# Altium schematic symbol library jlcpcb_2025_04_ferrites_extended_0805.schlib: 546 symbols (part 2 of 10)
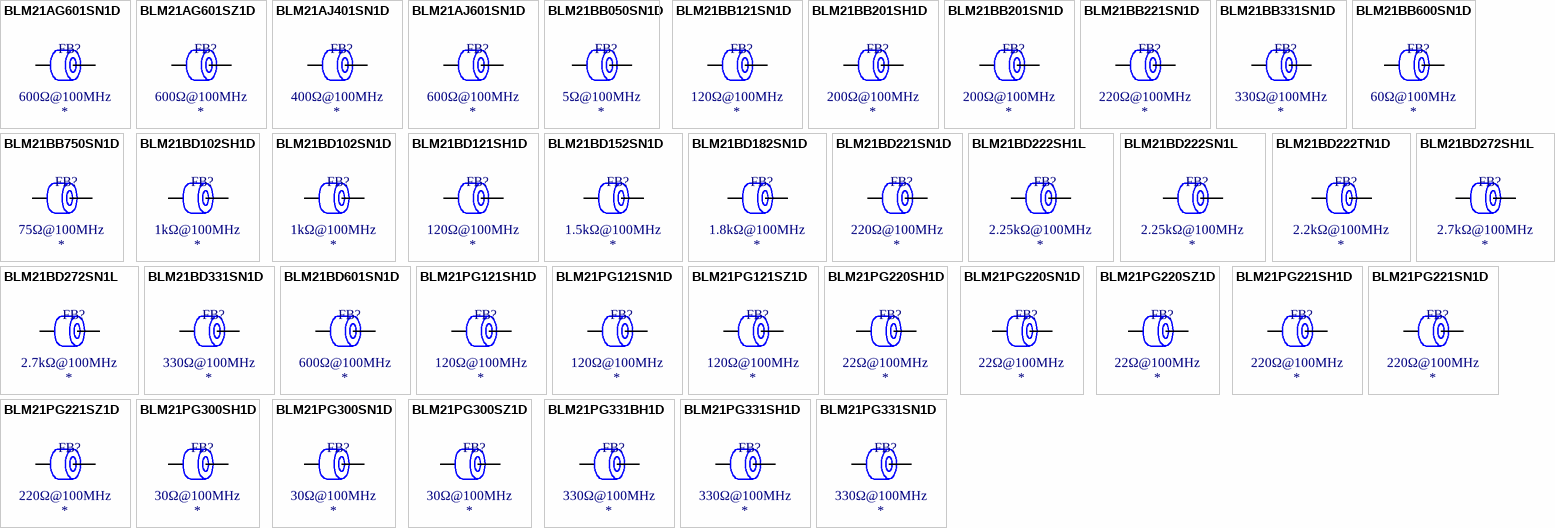
[diagram p14: symbols BLM21AG601SN1D to BLM21PG331SN1D]

## BLM21BD182SN1D
designator FB?  Impedance @ Frequency: 1.8kΩ@100MHz
Ferrite, 1.8kΩ@100MHz, ±25%, 500mΩ, 250mA, SMD 0805; Manufacturer: Murata Electronics; Manufacturer Part Number: BLM21BD182SN1D; Package Size: 0805; JLCPCB Basic Part: No; JLCPCB Part Number: C527614; Supplier 1: LCSC; Category: Ferrite Beads; Supplier Part Number 1: C527614; Tolerance: ±25%; Rated Current: 250mA; DC Resistance: 500mΩ; RoHS: Yes; ComponentLink1Description: Datasheet; ComponentLink1URL: https://wmsc.lcsc.com/wmsc/upload/file/pdf/v2/lcsc/2304140030_Murata-Electronics-BLM21BD182SN1D_C527614.pdf; ComponentLink2Description: JLCPCB Part URL; ComponentLink2URL: https://jlcpcb.com/partdetail/C527614; ComponentLink3Description: LCSC Part URL; ComponentLink3URL: https://lcsc.com/product-detail/Ferrite-Beads_Murata-Electronics-Murata-Electronics-BLM21BD182SN1D_C527614.html
footprint FB-0805 (0805 (2012M) Ferrite)
pins: 1, 2

## BLM21BD221SN1D
designator FB?  Impedance @ Frequency: 220Ω@100MHz
Ferrite, 220Ω@100MHz, 250mΩ, SMD 0805; Manufacturer: Murata Electronics; Manufacturer Part Number: BLM21BD221SN1D; Package Size: 0805; JLCPCB Basic Part: No; JLCPCB Part Number: C603119; Supplier 1: LCSC; Category: Ferrite Beads; Supplier Part Number 1: C603119; DC Resistance: 250mΩ; RoHS: Yes; ComponentLink1Description: Datasheet; ComponentLink1URL: https://wmsc.lcsc.com/wmsc/upload/file/pdf/v2/lcsc/2008241233_Murata-Electronics-BLM21BD221SN1D_C603119.pdf; ComponentLink2Description: JLCPCB Part URL; ComponentLink2URL: https://jlcpcb.com/partdetail/C603119; ComponentLink3Description: LCSC Part URL; ComponentLink3URL: https://lcsc.com/product-detail/Ferrite-Beads_Murata-Electronics-Murata-Electronics-BLM21BD221SN1D_C603119.html
pins: 1, 2

## BLM21BD222SH1L
designator FB?  Impedance @ Frequency: 2.25kΩ@100MHz
Ferrite, 2.25kΩ@100MHz, ±25%, 600mΩ, 250mA, SMD 0805; Manufacturer: Murata Electronics; Manufacturer Part Number: BLM21BD222SH1L; Package Size: 0805; JLCPCB Basic Part: No; JLCPCB Part Number: C701158; Supplier 1: LCSC; Category: Ferrite Beads; Supplier Part Number 1: C701158; Tolerance: ±25%; Rated Current: 250mA; DC Resistance: 600mΩ; RoHS: Yes; ComponentLink1Description: Datasheet; ComponentLink1URL: https://wmsc.lcsc.com/wmsc/upload/file/pdf/v2/lcsc/2009241508_Murata-Electronics-BLM21BD222SH1L_C701158.pdf; ComponentLink2Description: JLCPCB Part URL; ComponentLink2URL: https://jlcpcb.com/partdetail/C701158; ComponentLink3Description: LCSC Part URL; ComponentLink3URL: https://lcsc.com/product-detail/Ferrite-Beads_Murata-Electronics-Murata-Electronics-BLM21BD222SH1L_C701158.html
footprint FB-0805 (0805 (2012M) Ferrite)
pins: 1, 2

## BLM21BD222SN1L
designator FB?  Impedance @ Frequency: 2.25kΩ@100MHz
Ferrite, 2.25kΩ@100MHz, ±25%, 600mΩ, 250mA, SMD 0805; Manufacturer: Murata Electronics; Manufacturer Part Number: BLM21BD222SN1L; Package Size: 0805; JLCPCB Basic Part: No; JLCPCB Part Number: C440134; Supplier 1: LCSC; Category: Ferrite Beads; Supplier Part Number 1: C440134; Tolerance: ±25%; Rated Current: 250mA; DC Resistance: 600mΩ; RoHS: Yes; ComponentLink1Description: Datasheet; ComponentLink1URL: https://wmsc.lcsc.com/wmsc/upload/file/pdf/v2/lcsc/2304140030_Murata-Electronics-BLM21BD222SN1L_C440134.pdf; ComponentLink2Description: JLCPCB Part URL; ComponentLink2URL: https://jlcpcb.com/partdetail/C440134; ComponentLink3Description: LCSC Part URL; ComponentLink3URL: https://lcsc.com/product-detail/Ferrite-Beads_Murata-Electronics-Murata-Electronics-BLM21BD222SN1L_C440134.html
footprint FB-0805 (0805 (2012M) Ferrite)
pins: 1, 2

## BLM21BD222TN1D
designator FB?  Impedance @ Frequency: 2.2kΩ@100MHz
Ferrite, 2.2kΩ@100MHz, ±25%, 600mΩ, 200mA, SMD 0805; Manufacturer: Murata Electronics; Manufacturer Part Number: BLM21BD222TN1D; Package Size: 0805; JLCPCB Basic Part: No; JLCPCB Part Number: C85838; Supplier 1: LCSC; Category: Ferrite Beads; Supplier Part Number 1: C85838; Tolerance: ±25%; Rated Current: 200mA; DC Resistance: 600mΩ; RoHS: Yes; ComponentLink1Description: Datasheet; ComponentLink1URL: https://wmsc.lcsc.com/wmsc/upload/file/pdf/v2/lcsc/2304140030_Murata-Electronics-BLM21BD222TN1D_C85838.pdf; ComponentLink2Description: JLCPCB Part URL; ComponentLink2URL: https://jlcpcb.com/partdetail/C85838; ComponentLink3Description: LCSC Part URL; ComponentLink3URL: https://lcsc.com/product-detail/Ferrite-Beads_Murata-Electronics-Murata-Electronics-BLM21BD222TN1D_C85838.html
footprint FB-0805 (0805 (2012M) Ferrite)
pins: 1, 2

## BLM21BD272SH1L
designator FB?  Impedance @ Frequency: 2.7kΩ@100MHz
Ferrite, 2.7kΩ@100MHz, ±25%, 800mΩ, 200mA, SMD 0805; Manufacturer: Murata Electronics; Manufacturer Part Number: BLM21BD272SH1L; Package Size: 0805; JLCPCB Basic Part: No; JLCPCB Part Number: C437409; Supplier 1: LCSC; Category: Ferrite Beads; Supplier Part Number 1: C437409; Tolerance: ±25%; Rated Current: 200mA; DC Resistance: 800mΩ; RoHS: Yes; ComponentLink1Description: Datasheet; ComponentLink1URL: https://wmsc.lcsc.com/wmsc/upload/file/pdf/v2/lcsc/2304140030_Murata-Electronics-BLM21BD272SH1L_C437409.pdf; ComponentLink2Description: JLCPCB Part URL; ComponentLink2URL: https://jlcpcb.com/partdetail/C437409; ComponentLink3Description: LCSC Part URL; ComponentLink3URL: https://lcsc.com/product-detail/Ferrite-Beads_Murata-Electronics-Murata-Electronics-BLM21BD272SH1L_C437409.html
footprint FB-0805 (0805 (2012M) Ferrite)
pins: 1, 2

## BLM21BD272SN1L
designator FB?  Impedance @ Frequency: 2.7kΩ@100MHz
Ferrite, 2.7kΩ@100MHz, ±25%, 800mΩ, 200mA, SMD 0805; Manufacturer: Murata Electronics; Manufacturer Part Number: BLM21BD272SN1L; Package Size: 0805; JLCPCB Basic Part: No; JLCPCB Part Number: C85839; Supplier 1: LCSC; Category: Ferrite Beads; Supplier Part Number 1: C85839; Tolerance: ±25%; Rated Current: 200mA; DC Resistance: 800mΩ; RoHS: Yes; ComponentLink1Description: Datasheet; ComponentLink1URL: https://wmsc.lcsc.com/wmsc/upload/file/pdf/v2/lcsc/2304140030_Murata-Electronics-BLM21BD272SN1L_C85839.pdf; ComponentLink2Description: JLCPCB Part URL; ComponentLink2URL: https://jlcpcb.com/partdetail/C85839; ComponentLink3Description: LCSC Part URL; ComponentLink3URL: https://lcsc.com/product-detail/Ferrite-Beads_Murata-Electronics-Murata-Electronics-BLM21BD272SN1L_C85839.html
footprint FB-0805 (0805 (2012M) Ferrite)
pins: 1, 2

## BLM21BD331SN1D
designator FB?  Impedance @ Frequency: 330Ω@100MHz
Ferrite, 330Ω@100MHz, ±25%, 300mΩ, 300mA, SMD 0805; Manufacturer: Murata Electronics; Manufacturer Part Number: BLM21BD331SN1D; Package Size: 0805; JLCPCB Basic Part: No; JLCPCB Part Number: C710506; Supplier 1: LCSC; Category: Ferrite Beads; Supplier Part Number 1: C710506; Tolerance: ±25%; Rated Current: 300mA; DC Resistance: 300mΩ; RoHS: Yes; ComponentLink1Description: Datasheet; ComponentLink1URL: https://wmsc.lcsc.com/wmsc/upload/file/pdf/v2/lcsc/2304140030_Murata-Electronics-BLM21BD331SN1D_C710506.pdf; ComponentLink2Description: JLCPCB Part URL; ComponentLink2URL: https://jlcpcb.com/partdetail/C710506; ComponentLink3Description: LCSC Part URL; ComponentLink3URL: https://lcsc.com/product-detail/Ferrite-Beads_Murata-Electronics-Murata-Electronics-BLM21BD331SN1D_C710506.html
footprint FB-0805 (0805 (2012M) Ferrite)
pins: 1, 2

## BLM21BD601SN1D
designator FB?  Impedance @ Frequency: 600Ω@100MHz
Ferrite, 600Ω@100MHz, ±25%, 350mΩ, 300mA, SMD 0805; Manufacturer: Murata Electronics; Manufacturer Part Number: BLM21BD601SN1D; Package Size: 0805; JLCPCB Basic Part: No; JLCPCB Part Number: C341663; Supplier 1: LCSC; Category: Ferrite Beads; Supplier Part Number 1: C341663; Tolerance: ±25%; Rated Current: 300mA; DC Resistance: 350mΩ; RoHS: Yes; ComponentLink1Description: Datasheet; ComponentLink1URL: https://wmsc.lcsc.com/wmsc/upload/file/pdf/v2/lcsc/2304140030_Murata-Electronics-BLM21BD601SN1D_C341663.pdf; ComponentLink2Description: JLCPCB Part URL; ComponentLink2URL: https://jlcpcb.com/partdetail/C341663; ComponentLink3Description: LCSC Part URL; ComponentLink3URL: https://lcsc.com/product-detail/Ferrite-Beads_Murata-Electronics-Murata-Electronics-BLM21BD601SN1D_C341663.html
footprint FB-0805 (0805 (2012M) Ferrite)
pins: 1, 2

## BLM21PG121SH1D
designator FB?  Impedance @ Frequency: 120Ω@100MHz
Ferrite, 120Ω@100MHz, ±25%, 30mΩ, 3A, SMD 0805; Manufacturer: Murata Electronics; Manufacturer Part Number: BLM21PG121SH1D; Package Size: 0805; JLCPCB Basic Part: No; JLCPCB Part Number: C437410; Supplier 1: LCSC; Category: Ferrite Beads; Supplier Part Number 1: C437410; Tolerance: ±25%; Rated Current: 3A; DC Resistance: 30mΩ; RoHS: Yes; ComponentLink1Description: Datasheet; ComponentLink1URL: https://wmsc.lcsc.com/wmsc/upload/file/pdf/v2/lcsc/2304140030_Murata-Electronics-BLM21PG121SH1D_C437410.pdf; ComponentLink2Description: JLCPCB Part URL; ComponentLink2URL: https://jlcpcb.com/partdetail/C437410; ComponentLink3Description: LCSC Part URL; ComponentLink3URL: https://lcsc.com/product-detail/Ferrite-Beads_Murata-Electronics-Murata-Electronics-BLM21PG121SH1D_C437410.html
footprint FB-0805 (0805 (2012M) Ferrite)
pins: 1, 2

## BLM21PG121SN1D
designator FB?  Impedance @ Frequency: 120Ω@100MHz
Ferrite, 120Ω@100MHz, ±25%, 30mΩ, 3A, SMD 0805; Manufacturer: Murata Electronics; Manufacturer Part Number: BLM21PG121SN1D; Package Size: 0805; JLCPCB Basic Part: No; JLCPCB Part Number: C79382; Supplier 1: LCSC; Category: Ferrite Beads; Supplier Part Number 1: C79382; Tolerance: ±25%; Rated Current: 3A; DC Resistance: 30mΩ; RoHS: Yes; ComponentLink1Description: Datasheet; ComponentLink1URL: https://wmsc.lcsc.com/wmsc/upload/file/pdf/v2/lcsc/2304140030_Murata-Electronics-BLM21PG121SN1D_C79382.pdf; ComponentLink2Description: JLCPCB Part URL; ComponentLink2URL: https://jlcpcb.com/partdetail/C79382; ComponentLink3Description: LCSC Part URL; ComponentLink3URL: https://lcsc.com/product-detail/Ferrite-Beads_Murata-Electronics-Murata-Electronics-BLM21PG121SN1D_C79382.html
footprint FB-0805 (0805 (2012M) Ferrite)
pins: 1, 2

## BLM21PG121SZ1D
designator FB?  Impedance @ Frequency: 120Ω@100MHz
Ferrite, 120Ω@100MHz, ±25%, 60mΩ, 3A, SMD 0805; Manufacturer: Murata Electronics; Manufacturer Part Number: BLM21PG121SZ1D; Package Size: 0805; JLCPCB Basic Part: No; JLCPCB Part Number: C160987; Supplier 1: LCSC; Category: Ferrite Beads; Supplier Part Number 1: C160987; Tolerance: ±25%; Rated Current: 3A; DC Resistance: 60mΩ; RoHS: Yes; ComponentLink1Description: Datasheet; ComponentLink1URL: https://wmsc.lcsc.com/wmsc/upload/file/pdf/v2/lcsc/1810201240_Murata-Electronics-BLM21PG121SZ1D_C160987.pdf; ComponentLink2Description: JLCPCB Part URL; ComponentLink2URL: https://jlcpcb.com/partdetail/C160987; ComponentLink3Description: LCSC Part URL; ComponentLink3URL: https://lcsc.com/product-detail/Ferrite-Beads_Murata-Electronics-Murata-Electronics-BLM21PG121SZ1D_C160987.html
footprint FB-0805 (0805 (2012M) Ferrite)
pins: 1, 2

## BLM21PG220SH1D
designator FB?  Impedance @ Frequency: 22Ω@100MHz
Ferrite, 22Ω@100MHz, ±25%, 9mΩ, 6A, SMD 0805; Manufacturer: Murata Electronics; Manufacturer Part Number: BLM21PG220SH1D; Package Size: 0805; JLCPCB Basic Part: No; JLCPCB Part Number: C341664; Supplier 1: LCSC; Category: Ferrite Beads; Supplier Part Number 1: C341664; Tolerance: ±25%; Rated Current: 6A; DC Resistance: 9mΩ; RoHS: Yes; ComponentLink1Description: Datasheet; ComponentLink1URL: https://wmsc.lcsc.com/wmsc/upload/file/pdf/v2/lcsc/1912111437_Murata-Electronics-BLM21PG220SH1D_C341664.pdf; ComponentLink2Description: JLCPCB Part URL; ComponentLink2URL: https://jlcpcb.com/partdetail/C341664; ComponentLink3Description: LCSC Part URL; ComponentLink3URL: https://lcsc.com/product-detail/Ferrite-Beads_Murata-Electronics-Murata-Electronics-BLM21PG220SH1D_C341664.html
footprint FB-0805 (0805 (2012M) Ferrite)
pins: 1, 2

## BLM21PG220SN1D
designator FB?  Impedance @ Frequency: 22Ω@100MHz
Ferrite, 22Ω@100MHz, ±25%, 9mΩ, 6A, SMD 0805; Manufacturer: Murata Electronics; Manufacturer Part Number: BLM21PG220SN1D; Package Size: 0805; JLCPCB Basic Part: No; JLCPCB Part Number: C88993; Supplier 1: LCSC; Category: Ferrite Beads; Supplier Part Number 1: C88993; Tolerance: ±25%; Rated Current: 6A; DC Resistance: 9mΩ; RoHS: Yes; ComponentLink1Description: Datasheet; ComponentLink1URL: https://wmsc.lcsc.com/wmsc/upload/file/pdf/v2/lcsc/2304140030_Murata-Electronics-BLM21PG220SN1D_C88993.pdf; ComponentLink2Description: JLCPCB Part URL; ComponentLink2URL: https://jlcpcb.com/partdetail/C88993; ComponentLink3Description: LCSC Part URL; ComponentLink3URL: https://lcsc.com/product-detail/Ferrite-Beads_Murata-Electronics-Murata-Electronics-BLM21PG220SN1D_C88993.html
footprint FB-0805 (0805 (2012M) Ferrite)
pins: 1, 2

## BLM21PG220SZ1D
designator FB?  Impedance @ Frequency: 22Ω@100MHz
Ferrite, 22Ω@100MHz, ±25%, 9mΩ, 6A, SMD 0805; Manufacturer: Murata Electronics; Manufacturer Part Number: BLM21PG220SZ1D; Package Size: 0805; JLCPCB Basic Part: No; JLCPCB Part Number: C2661893; Supplier 1: LCSC; Category: Ferrite Beads; Supplier Part Number 1: C2661893; Tolerance: ±25%; Rated Current: 6A; DC Resistance: 9mΩ; RoHS: Yes; ComponentLink1Description: Datasheet; ComponentLink1URL: https://wmsc.lcsc.com/wmsc/upload/file/pdf/v2/lcsc/2304140030_Murata-Electronics-BLM21PG220SZ1D_C2661893.pdf; ComponentLink2Description: JLCPCB Part URL; ComponentLink2URL: https://jlcpcb.com/partdetail/C2661893; ComponentLink3Description: LCSC Part URL; ComponentLink3URL: https://lcsc.com/product-detail/Ferrite-Beads_Murata-Electronics-Murata-Electronics-BLM21PG220SZ1D_C2661893.html
footprint FB-0805 (0805 (2012M) Ferrite)
pins: 1, 2

## BLM21PG221SH1D
designator FB?  Impedance @ Frequency: 220Ω@100MHz
Ferrite, 220Ω@100MHz, ±25%, 45mΩ, 2A, SMD 0805; Manufacturer: Murata Electronics; Manufacturer Part Number: BLM21PG221SH1D; Package Size: 0805; JLCPCB Basic Part: No; JLCPCB Part Number: C88994; Supplier 1: LCSC; Category: Ferrite Beads; Supplier Part Number 1: C88994; Tolerance: ±25%; Rated Current: 2A; DC Resistance: 45mΩ; RoHS: Yes; ComponentLink1Description: Datasheet; ComponentLink1URL: https://wmsc.lcsc.com/wmsc/upload/file/pdf/v2/lcsc/2304140030_Murata-Electronics-BLM21PG221SH1D_C88994.pdf; ComponentLink2Description: JLCPCB Part URL; ComponentLink2URL: https://jlcpcb.com/partdetail/C88994; ComponentLink3Description: LCSC Part URL; ComponentLink3URL: https://lcsc.com/product-detail/Ferrite-Beads_Murata-Electronics-Murata-Electronics-BLM21PG221SH1D_C88994.html
footprint FB-0805 (0805 (2012M) Ferrite)
pins: 1, 2

## BLM21PG221SN1D
designator FB?  Impedance @ Frequency: 220Ω@100MHz
Ferrite, 220Ω@100MHz, ±25%, 45mΩ, 2A, SMD 0805; Manufacturer: Murata Electronics; Manufacturer Part Number: BLM21PG221SN1D; Package Size: 0805; JLCPCB Basic Part: No; JLCPCB Part Number: C85840; Supplier 1: LCSC; Category: Ferrite Beads; Supplier Part Number 1: C85840; Tolerance: ±25%; Rated Current: 2A; DC Resistance: 45mΩ; RoHS: Yes; ComponentLink1Description: Datasheet; ComponentLink1URL: https://wmsc.lcsc.com/wmsc/upload/file/pdf/v2/lcsc/2304140030_Murata-Electronics-BLM21PG221SN1D_C85840.pdf; ComponentLink2Description: JLCPCB Part URL; ComponentLink2URL: https://jlcpcb.com/partdetail/C85840; ComponentLink3Description: LCSC Part URL; ComponentLink3URL: https://lcsc.com/product-detail/Ferrite-Beads_Murata-Electronics-Murata-Electronics-BLM21PG221SN1D_C85840.html
footprint FB-0805 (0805 (2012M) Ferrite)
pins: 1, 2

## BLM21PG221SZ1D
designator FB?  Impedance @ Frequency: 220Ω@100MHz
Ferrite, 220Ω@100MHz, ±25%, 45mΩ, 2A, SMD 0805; Manufacturer: Murata Electronics; Manufacturer Part Number: BLM21PG221SZ1D; Package Size: 0805; JLCPCB Basic Part: No; JLCPCB Part Number: C437411; Supplier 1: LCSC; Category: Ferrite Beads; Supplier Part Number 1: C437411; Tolerance: ±25%; Rated Current: 2A; DC Resistance: 45mΩ; RoHS: Yes; ComponentLink1Description: Datasheet; ComponentLink1URL: https://wmsc.lcsc.com/wmsc/upload/file/pdf/v2/lcsc/2304140030_Murata-Electronics-BLM21PG221SZ1D_C437411.pdf; ComponentLink2Description: JLCPCB Part URL; ComponentLink2URL: https://jlcpcb.com/partdetail/C437411; ComponentLink3Description: LCSC Part URL; ComponentLink3URL: https://lcsc.com/product-detail/Ferrite-Beads_Murata-Electronics-Murata-Electronics-BLM21PG221SZ1D_C437411.html
footprint FB-0805 (0805 (2012M) Ferrite)
pins: 1, 2

## BLM21PG300SH1D
designator FB?  Impedance @ Frequency: 30Ω@100MHz
Ferrite, 30Ω@100MHz, ±25%, 14mΩ, 4A, SMD 0805; Manufacturer: Murata Electronics; Manufacturer Part Number: BLM21PG300SH1D; Package Size: 0805; JLCPCB Basic Part: No; JLCPCB Part Number: C701257; Supplier 1: LCSC; Category: Ferrite Beads; Supplier Part Number 1: C701257; Tolerance: ±25%; Rated Current: 4A; DC Resistance: 14mΩ; RoHS: Yes; ComponentLink1Description: Datasheet; ComponentLink1URL: https://wmsc.lcsc.com/wmsc/upload/file/pdf/v2/lcsc/2010151208_Murata-Electronics-BLM21PG300SH1D_C701257.pdf; ComponentLink2Description: JLCPCB Part URL; ComponentLink2URL: https://jlcpcb.com/partdetail/C701257; ComponentLink3Description: LCSC Part URL; ComponentLink3URL: https://lcsc.com/product-detail/Ferrite-Beads_Murata-Electronics-Murata-Electronics-BLM21PG300SH1D_C701257.html
footprint FB-0805 (0805 (2012M) Ferrite)
pins: 1, 2

## BLM21PG300SN1D
designator FB?  Impedance @ Frequency: 30Ω@100MHz
Ferrite, 30Ω@100MHz, ±25%, 14mΩ, 4A, SMD 0805; Manufacturer: Murata Electronics; Manufacturer Part Number: BLM21PG300SN1D; Package Size: 0805; JLCPCB Basic Part: No; JLCPCB Part Number: C16903; Supplier 1: LCSC; Category: Ferrite Beads; Supplier Part Number 1: C16903; Tolerance: ±25%; Rated Current: 4A; DC Resistance: 14mΩ; RoHS: Yes; ComponentLink1Description: Datasheet; ComponentLink1URL: https://wmsc.lcsc.com/wmsc/upload/file/pdf/v2/lcsc/2304140030_Murata-Electronics-BLM21PG300SN1D_C16903.pdf; ComponentLink2Description: JLCPCB Part URL; ComponentLink2URL: https://jlcpcb.com/partdetail/C16903; ComponentLink3Description: LCSC Part URL; ComponentLink3URL: https://lcsc.com/product-detail/Ferrite-Beads_Murata-Electronics-Murata-Electronics-BLM21PG300SN1D-_C16903.html
footprint FB-0805 (0805 (2012M) Ferrite)
pins: 1, 2

## BLM21PG300SZ1D
designator FB?  Impedance @ Frequency: 30Ω@100MHz
Ferrite, 30Ω@100MHz, ±25%, 14mΩ, 4A, SMD 0805; Manufacturer: Murata Electronics; Manufacturer Part Number: BLM21PG300SZ1D; Package Size: 0805; JLCPCB Basic Part: No; JLCPCB Part Number: C710510; Supplier 1: LCSC; Category: Ferrite Beads; Supplier Part Number 1: C710510; Tolerance: ±25%; Rated Current: 4A; DC Resistance: 14mΩ; RoHS: Yes; ComponentLink1Description: Datasheet; ComponentLink1URL: https://wmsc.lcsc.com/wmsc/upload/file/pdf/v2/lcsc/2304140030_Murata-Electronics-BLM21PG300SZ1D_C710510.pdf; ComponentLink2Description: JLCPCB Part URL; ComponentLink2URL: https://jlcpcb.com/partdetail/C710510; ComponentLink3Description: LCSC Part URL; ComponentLink3URL: https://lcsc.com/product-detail/Ferrite-Beads_Murata-Electronics-Murata-Electronics-BLM21PG300SZ1D_C710510.html
footprint FB-0805 (0805 (2012M) Ferrite)
pins: 1, 2

## BLM21PG331BH1D
designator FB?  Impedance @ Frequency: 330Ω@100MHz
Ferrite, 330Ω@100MHz, 70mΩ, SMD 0805; Manufacturer: Murata Electronics; Manufacturer Part Number: BLM21PG331BH1D; Package Size: 0805; JLCPCB Basic Part: No; JLCPCB Part Number: C3716757; Supplier 1: LCSC; Category: Ferrite Beads; Supplier Part Number 1: C3716757; DC Resistance: 70mΩ; RoHS: Yes; ComponentLink1Description: Datasheet; ComponentLink1URL: https://wmsc.lcsc.com/wmsc/upload/file/pdf/v2/lcsc/2308111351_Murata-Electronics-BLM21PG331BH1D_C3716757.pdf; ComponentLink2Description: JLCPCB Part URL; ComponentLink2URL: https://jlcpcb.com/partdetail/C3716757; ComponentLink3Description: LCSC Part URL; ComponentLink3URL: https://lcsc.com/product-detail/Ferrite-Beads_Murata-Electronics-Murata-Electronics-BLM21PG331BH1D_C3716757.html
pins: 1, 2

## BLM21PG331SH1D
designator FB?  Impedance @ Frequency: 330Ω@100MHz
Ferrite, 330Ω@100MHz, ±25%, 70mΩ, 1.5A, SMD 0805; Manufacturer: Murata Electronics; Manufacturer Part Number: BLM21PG331SH1D; Package Size: 0805; JLCPCB Basic Part: No; JLCPCB Part Number: C72904; Supplier 1: LCSC; Category: Ferrite Beads; Supplier Part Number 1: C72904; Tolerance: ±25%; Rated Current: 1.5A; DC Resistance: 70mΩ; RoHS: Yes; ComponentLink1Description: Datasheet; ComponentLink1URL: https://wmsc.lcsc.com/wmsc/upload/file/pdf/v2/lcsc/1810201233_Murata-Electronics-BLM21PG331SH1D_C72904.pdf; ComponentLink2Description: JLCPCB Part URL; ComponentLink2URL: https://jlcpcb.com/partdetail/C72904; ComponentLink3Description: LCSC Part URL; ComponentLink3URL: https://lcsc.com/product-detail/Ferrite-Beads_Murata-Electronics-Murata-Electronics-BLM21PG331SH1D_C72904.html
footprint FB-0805 (0805 (2012M) Ferrite)
pins: 1, 2

## BLM21PG331SN1D
designator FB?  Impedance @ Frequency: 330Ω@100MHz
Ferrite, 330Ω@100MHz, ±25%, 70mΩ, 1.5A, SMD 0805; Manufacturer: Murata Electronics; Manufacturer Part Number: BLM21PG331SN1D; Package Size: 0805; JLCPCB Basic Part: No; JLCPCB Part Number: C74764; Supplier 1: LCSC; Category: Ferrite Beads; Supplier Part Number 1: C74764; Tolerance: ±25%; Rated Current: 1.5A; DC Resistance: 70mΩ; RoHS: Yes; ComponentLink1Description: Datasheet; ComponentLink1URL: https://wmsc.lcsc.com/wmsc/upload/file/pdf/v2/lcsc/2304140030_Murata-Electronics-BLM21PG331SN1D_C74764.pdf; ComponentLink2Description: JLCPCB Part URL; ComponentLink2URL: https://jlcpcb.com/partdetail/C74764; ComponentLink3Description: LCSC Part URL; ComponentLink3URL: https://lcsc.com/product-detail/Ferrite-Beads_Murata-Electronics-Murata-Electronics-BLM21PG331SN1D_C74764.html
footprint FB-0805 (0805 (2012M) Ferrite)
pins: 1, 2

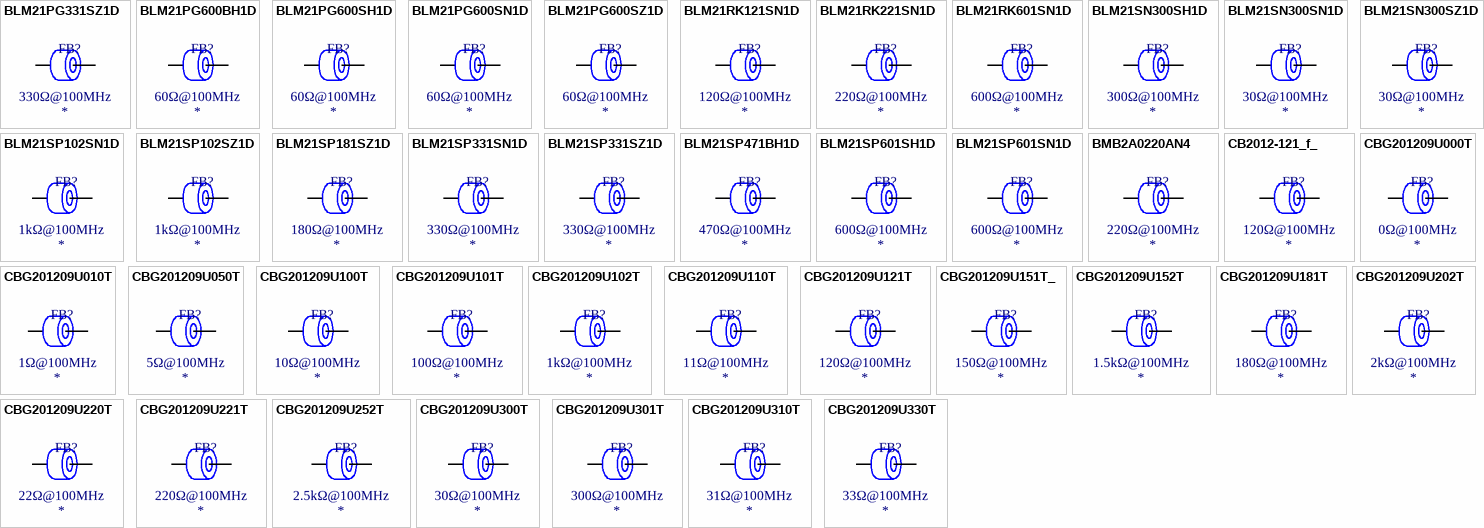
[diagram p2: symbols BLM21PG331SZ1D to CBG201209U330T]

## BLM21PG331SZ1D
designator FB?  Impedance @ Frequency: 330Ω@100MHz
Ferrite, 330Ω@100MHz, ±25%, 70mΩ, 1.5A, SMD 0805; Manufacturer: Murata Electronics; Manufacturer Part Number: BLM21PG331SZ1D; Package Size: 0805; JLCPCB Basic Part: No; JLCPCB Part Number: C701265; Supplier 1: LCSC; Category: Ferrite Beads; Supplier Part Number 1: C701265; Tolerance: ±25%; Rated Current: 1.5A; DC Resistance: 70mΩ; RoHS: Yes; ComponentLink1Description: Datasheet; ComponentLink1URL: https://wmsc.lcsc.com/wmsc/upload/file/pdf/v2/lcsc/2010231205_Murata-Electronics-BLM21PG331SZ1D_C701265.pdf; ComponentLink2Description: JLCPCB Part URL; ComponentLink2URL: https://jlcpcb.com/partdetail/C701265; ComponentLink3Description: LCSC Part URL; ComponentLink3URL: https://lcsc.com/product-detail/Ferrite-Beads_Murata-Electronics-Murata-Electronics-BLM21PG331SZ1D_C701265.html
footprint FB-0805 (0805 (2012M) Ferrite)
pins: 1, 2

## BLM21PG600BH1D
designator FB?  Impedance @ Frequency: 60Ω@100MHz
Ferrite, 60Ω@100MHz, 20mΩ, SMD 0805; Manufacturer: Murata Electronics; Manufacturer Part Number: BLM21PG600BH1D; Package Size: 0805; JLCPCB Basic Part: No; JLCPCB Part Number: C3039636; Supplier 1: LCSC; Category: Ferrite Beads; Supplier Part Number 1: C3039636; DC Resistance: 20mΩ; RoHS: Yes; ComponentLink1Description: Datasheet; ComponentLink1URL: https://wmsc.lcsc.com/wmsc/upload/file/pdf/v2/lcsc/2206171701_Murata-Electronics-BLM21PG600BH1D_C3039636.pdf; ComponentLink2Description: JLCPCB Part URL; ComponentLink2URL: https://jlcpcb.com/partdetail/C3039636; ComponentLink3Description: LCSC Part URL; ComponentLink3URL: https://lcsc.com/product-detail/Ferrite-Beads_Murata-Electronics-Murata-Electronics-BLM21PG600BH1D_C3039636.html
pins: 1, 2

## BLM21PG600SH1D
designator FB?  Impedance @ Frequency: 60Ω@100MHz
Ferrite, 60Ω@100MHz, ±25%, 20mΩ, 3.5A, SMD 0805; Manufacturer: Murata Electronics; Manufacturer Part Number: BLM21PG600SH1D; Package Size: 0805; JLCPCB Basic Part: No; JLCPCB Part Number: C337883; Supplier 1: LCSC; Category: Ferrite Beads; Supplier Part Number 1: C337883; Tolerance: ±25%; Rated Current: 3.5A; DC Resistance: 20mΩ; RoHS: Yes; ComponentLink1Description: Datasheet; ComponentLink1URL: https://wmsc.lcsc.com/wmsc/upload/file/pdf/v2/lcsc/2304140030_Murata-Electronics-BLM21PG600SH1D_C337883.pdf; ComponentLink2Description: JLCPCB Part URL; ComponentLink2URL: https://jlcpcb.com/partdetail/C337883; ComponentLink3Description: LCSC Part URL; ComponentLink3URL: https://lcsc.com/product-detail/Ferrite-Beads_Murata-Electronics-Murata-Electronics-BLM21PG600SH1D_C337883.html
footprint FB-0805 (0805 (2012M) Ferrite)
pins: 1, 2

## BLM21PG600SN1D
designator FB?  Impedance @ Frequency: 60Ω@100MHz
Ferrite, 60Ω@100MHz, ±25%, 20mΩ, 3.5A, SMD 0805; Manufacturer: Murata Electronics; Manufacturer Part Number: BLM21PG600SN1D; Package Size: 0805; JLCPCB Basic Part: No; JLCPCB Part Number: C18305; Supplier 1: LCSC; Category: Ferrite Beads; Supplier Part Number 1: C18305; Tolerance: ±25%; Rated Current: 3.5A; DC Resistance: 20mΩ; RoHS: Yes; ComponentLink1Description: Datasheet; ComponentLink1URL: https://wmsc.lcsc.com/wmsc/upload/file/pdf/v2/lcsc/1811050210_Murata-Electronics-BLM21PG600SN1D_C18305.pdf; ComponentLink2Description: JLCPCB Part URL; ComponentLink2URL: https://jlcpcb.com/partdetail/C18305; ComponentLink3Description: LCSC Part URL; ComponentLink3URL: https://lcsc.com/product-detail/Ferrite-Beads_Murata-Electronics-Murata-Electronics-BLM21PG600SN1D_C18305.html
footprint FB-0805 (0805 (2012M) Ferrite)
pins: 1, 2

## BLM21PG600SZ1D
designator FB?  Impedance @ Frequency: 60Ω@100MHz
Ferrite, 60Ω@100MHz, ±25%, 20mΩ, 3.5A, SMD 0805; Manufacturer: Murata Electronics; Manufacturer Part Number: BLM21PG600SZ1D; Package Size: 0805; JLCPCB Basic Part: No; JLCPCB Part Number: C237300; Supplier 1: LCSC; Category: Ferrite Beads; Supplier Part Number 1: C237300; Tolerance: ±25%; Rated Current: 3.5A; DC Resistance: 20mΩ; RoHS: Yes; ComponentLink1Description: Datasheet; ComponentLink1URL: https://wmsc.lcsc.com/wmsc/upload/file/pdf/v2/lcsc/2304140030_Murata-Electronics-BLM21PG600SZ1D_C237300.pdf; ComponentLink2Description: JLCPCB Part URL; ComponentLink2URL: https://jlcpcb.com/partdetail/C237300; ComponentLink3Description: LCSC Part URL; ComponentLink3URL: https://lcsc.com/product-detail/Ferrite-Beads_Murata-Electronics-Murata-Electronics-BLM21PG600SZ1D_C237300.html
footprint FB-0805 (0805 (2012M) Ferrite)
pins: 1, 2

## BLM21RK121SN1D
designator FB?  Impedance @ Frequency: 120Ω@100MHz
Ferrite, 120Ω@100MHz, ±25%, 150mΩ, 200mA, SMD 0805; Manufacturer: Murata Electronics; Manufacturer Part Number: BLM21RK121SN1D; Package Size: 0805; JLCPCB Basic Part: No; JLCPCB Part Number: C524532; Supplier 1: LCSC; Category: Ferrite Beads; Supplier Part Number 1: C524532; Tolerance: ±25%; Rated Current: 200mA; DC Resistance: 150mΩ; RoHS: Yes; ComponentLink1Description: Datasheet; ComponentLink1URL: https://wmsc.lcsc.com/wmsc/upload/file/pdf/v2/lcsc/2304140030_Murata-Electronics-BLM21RK121SN1D_C524532.pdf; ComponentLink2Description: JLCPCB Part URL; ComponentLink2URL: https://jlcpcb.com/partdetail/C524532; ComponentLink3Description: LCSC Part URL; ComponentLink3URL: https://lcsc.com/product-detail/Ferrite-Beads_Murata-Electronics-Murata-Electronics-BLM21RK121SN1D_C524532.html
footprint FB-0805 (0805 (2012M) Ferrite)
pins: 1, 2

## BLM21RK221SN1D
designator FB?  Impedance @ Frequency: 220Ω@100MHz
Ferrite, 220Ω@100MHz, ±25%, 200mΩ, 200mA, SMD 0805; Manufacturer: Murata Electronics; Manufacturer Part Number: BLM21RK221SN1D; Package Size: 0805; JLCPCB Basic Part: No; JLCPCB Part Number: C710511; Supplier 1: LCSC; Category: Ferrite Beads; Supplier Part Number 1: C710511; Tolerance: ±25%; Rated Current: 200mA; DC Resistance: 200mΩ; RoHS: Yes; ComponentLink1Description: Datasheet; ComponentLink1URL: https://wmsc.lcsc.com/wmsc/upload/file/pdf/v2/lcsc/2304140030_Murata-Electronics-BLM21RK221SN1D_C710511.pdf; ComponentLink2Description: JLCPCB Part URL; ComponentLink2URL: https://jlcpcb.com/partdetail/C710511; ComponentLink3Description: LCSC Part URL; ComponentLink3URL: https://lcsc.com/product-detail/Ferrite-Beads_Murata-Electronics-Murata-Electronics-BLM21RK221SN1D_C710511.html
footprint FB-0805 (0805 (2012M) Ferrite)
pins: 1, 2

## BLM21RK601SN1D
designator FB?  Impedance @ Frequency: 600Ω@100MHz
Ferrite, 600Ω@100MHz, 300mΩ, SMD 0805; Manufacturer: Murata Electronics; Manufacturer Part Number: BLM21RK601SN1D; Package Size: 0805; JLCPCB Basic Part: No; JLCPCB Part Number: C527966; Supplier 1: LCSC; Category: Ferrite Beads; Supplier Part Number 1: C527966; DC Resistance: 300mΩ; RoHS: Yes; ComponentLink1Description: Datasheet; ComponentLink1URL: https://wmsc.lcsc.com/wmsc/upload/file/pdf/v2/lcsc/2304140030_Murata-Electronics-BLM21RK601SN1D_C527966.pdf; ComponentLink2Description: JLCPCB Part URL; ComponentLink2URL: https://jlcpcb.com/partdetail/C527966; ComponentLink3Description: LCSC Part URL; ComponentLink3URL: https://lcsc.com/product-detail/Ferrite-Beads_Murata-Electronics-Murata-Electronics-BLM21RK601SN1D_C527966.html
pins: 1, 2

## BLM21SN300SH1D
designator FB?  Impedance @ Frequency: 300Ω@100MHz
Ferrite, 300Ω@100MHz, 4mΩ, SMD 0805; Manufacturer: Murata Electronics; Manufacturer Part Number: BLM21SN300SH1D; Package Size: 0805; JLCPCB Basic Part: No; JLCPCB Part Number: C703137; Supplier 1: LCSC; Category: Ferrite Beads; Supplier Part Number 1: C703137; DC Resistance: 4mΩ; RoHS: Yes; ComponentLink1Description: Datasheet; ComponentLink1URL: https://wmsc.lcsc.com/wmsc/upload/file/pdf/v2/lcsc/2308111551_Murata-Electronics-BLM21SN300SH1D_C703137.pdf; ComponentLink2Description: JLCPCB Part URL; ComponentLink2URL: https://jlcpcb.com/partdetail/C703137; ComponentLink3Description: LCSC Part URL; ComponentLink3URL: https://lcsc.com/product-detail/Ferrite-Beads_Murata-Electronics-Murata-Electronics-BLM21SN300SH1D_C703137.html
pins: 1, 2

## BLM21SN300SN1D
designator FB?  Impedance @ Frequency: 30Ω@100MHz
Ferrite, 30Ω@100MHz, ±10%, 4mΩ, 8.5A, SMD 0805; Manufacturer: Murata Electronics; Manufacturer Part Number: BLM21SN300SN1D; Package Size: 0805; JLCPCB Basic Part: No; JLCPCB Part Number: C596496; Supplier 1: LCSC; Category: Ferrite Beads; Supplier Part Number 1: C596496; Tolerance: ±10%; Rated Current: 8.5A; DC Resistance: 4mΩ; RoHS: Yes; ComponentLink1Description: Datasheet; ComponentLink1URL: https://wmsc.lcsc.com/wmsc/upload/file/pdf/v2/lcsc/2304140030_Murata-Electronics-BLM21SN300SN1D_C596496.pdf; ComponentLink2Description: JLCPCB Part URL; ComponentLink2URL: https://jlcpcb.com/partdetail/C596496; ComponentLink3Description: LCSC Part URL; ComponentLink3URL: https://lcsc.com/product-detail/Ferrite-Beads_Murata-Electronics-Murata-Electronics-BLM21SN300SN1D_C596496.html
footprint FB-0805 (0805 (2012M) Ferrite)
pins: 1, 2

## BLM21SN300SZ1D
designator FB?  Impedance @ Frequency: 30Ω@100MHz
Ferrite, 30Ω@100MHz, ±10%, 4mΩ, 8.5A, SMD 0805; Manufacturer: Murata Electronics; Manufacturer Part Number: BLM21SN300SZ1D; Package Size: 0805; JLCPCB Basic Part: No; JLCPCB Part Number: C710512; Supplier 1: LCSC; Category: Ferrite Beads; Supplier Part Number 1: C710512; Tolerance: ±10%; Rated Current: 8.5A; DC Resistance: 4mΩ; RoHS: Yes; ComponentLink1Description: Datasheet; ComponentLink1URL: https://wmsc.lcsc.com/wmsc/upload/file/pdf/v2/lcsc/2304140030_Murata-Electronics-BLM21SN300SZ1D_C710512.pdf; ComponentLink2Description: JLCPCB Part URL; ComponentLink2URL: https://jlcpcb.com/partdetail/C710512; ComponentLink3Description: LCSC Part URL; ComponentLink3URL: https://lcsc.com/product-detail/Ferrite-Beads_Murata-Electronics-Murata-Electronics-BLM21SN300SZ1D_C710512.html
footprint FB-0805 (0805 (2012M) Ferrite)
pins: 1, 2

## BLM21SP102SN1D
designator FB?  Impedance @ Frequency: 1kΩ@100MHz
Ferrite, 1kΩ@100MHz, SMD 0805; Manufacturer: Murata Electronics; Manufacturer Part Number: BLM21SP102SN1D; Package Size: 0805; JLCPCB Basic Part: No; JLCPCB Part Number: C1533919; Supplier 1: LCSC; Category: Ferrite Beads; Supplier Part Number 1: C1533919; RoHS: Yes; ComponentLink1Description: Datasheet; ComponentLink1URL: https://wmsc.lcsc.com/wmsc/upload/file/pdf/v2/lcsc/2308111548_Murata-Electronics-BLM21SP102SN1D_C1533919.pdf; ComponentLink2Description: JLCPCB Part URL; ComponentLink2URL: https://jlcpcb.com/partdetail/C1533919; ComponentLink3Description: LCSC Part URL; ComponentLink3URL: https://lcsc.com/product-detail/Ferrite-Beads_Murata-Electronics-Murata-Electronics-BLM21SP102SN1D_C1533919.html
pins: 1, 2

## BLM21SP102SZ1D
designator FB?  Impedance @ Frequency: 1kΩ@100MHz
Ferrite, 1kΩ@100MHz, ±25%, 120mΩ, 1.6A, SMD 0805; Manufacturer: Murata Electronics; Manufacturer Part Number: BLM21SP102SZ1D; Package Size: 0805; JLCPCB Basic Part: No; JLCPCB Part Number: C2661569; Supplier 1: LCSC; Category: Ferrite Beads; Supplier Part Number 1: C2661569; Tolerance: ±25%; Rated Current: 1.6A; DC Resistance: 120mΩ; RoHS: Yes; ComponentLink1Description: Datasheet; ComponentLink1URL: https://wmsc.lcsc.com/wmsc/upload/file/pdf/v2/lcsc/2202131730_Murata-Electronics-BLM21SP102SZ1D_C2661569.pdf; ComponentLink2Description: JLCPCB Part URL; ComponentLink2URL: https://jlcpcb.com/partdetail/C2661569; ComponentLink3Description: LCSC Part URL; ComponentLink3URL: https://lcsc.com/product-detail/Ferrite-Beads_Murata-Electronics-Murata-Electronics-BLM21SP102SZ1D_C2661569.html
footprint FB-0805 (0805 (2012M) Ferrite)
pins: 1, 2

## BLM21SP181SZ1D
designator FB?  Impedance @ Frequency: 180Ω@100MHz
Ferrite, 180Ω@100MHz, ±25%, 20mΩ, 4A, SMD 0805; Manufacturer: Murata Electronics; Manufacturer Part Number: BLM21SP181SZ1D; Package Size: 0805; JLCPCB Basic Part: No; JLCPCB Part Number: C2661786; Supplier 1: LCSC; Category: Ferrite Beads; Supplier Part Number 1: C2661786; Tolerance: ±25%; Rated Current: 4A; DC Resistance: 20mΩ; RoHS: Yes; ComponentLink1Description: Datasheet; ComponentLink1URL: https://wmsc.lcsc.com/wmsc/upload/file/pdf/v2/lcsc/2108070930_Murata-Electronics-BLM21SP181SZ1D_C2661786.pdf; ComponentLink2Description: JLCPCB Part URL; ComponentLink2URL: https://jlcpcb.com/partdetail/C2661786; ComponentLink3Description: LCSC Part URL; ComponentLink3URL: https://lcsc.com/product-detail/Ferrite-Beads_Murata-Electronics-Murata-Electronics-BLM21SP181SZ1D_C2661786.html
footprint FB-0805 (0805 (2012M) Ferrite)
pins: 1, 2

## BLM21SP331SN1D
designator FB?  Impedance @ Frequency: 330Ω@100MHz
Ferrite, 330Ω@100MHz, ±25%, 40mΩ, 2.8A, SMD 0805; Manufacturer: Murata Electronics; Manufacturer Part Number: BLM21SP331SN1D; Package Size: 0805; JLCPCB Basic Part: No; JLCPCB Part Number: C1533916; Supplier 1: LCSC; Category: Ferrite Beads; Supplier Part Number 1: C1533916; Tolerance: ±25%; Rated Current: 2.8A; DC Resistance: 40mΩ; RoHS: Yes; ComponentLink1Description: Datasheet; ComponentLink1URL: https://wmsc.lcsc.com/wmsc/upload/file/pdf/v2/lcsc/2201180930_Murata-Electronics-BLM21SP331SN1D_C1533916.pdf; ComponentLink2Description: JLCPCB Part URL; ComponentLink2URL: https://jlcpcb.com/partdetail/C1533916; ComponentLink3Description: LCSC Part URL; ComponentLink3URL: https://lcsc.com/product-detail/Ferrite-Beads_Murata-Electronics-Murata-Electronics-BLM21SP331SN1D_C1533916.html
footprint FB-0805 (0805 (2012M) Ferrite)
pins: 1, 2

## BLM21SP331SZ1D
designator FB?  Impedance @ Frequency: 330Ω@100MHz
Ferrite, 330Ω@100MHz, ±25%, 40mΩ, 2.8A, SMD 0805; Manufacturer: Murata Electronics; Manufacturer Part Number: BLM21SP331SZ1D; Package Size: 0805; JLCPCB Basic Part: No; JLCPCB Part Number: C2661776; Supplier 1: LCSC; Category: Ferrite Beads; Supplier Part Number 1: C2661776; Tolerance: ±25%; Rated Current: 2.8A; DC Resistance: 40mΩ; RoHS: Yes; ComponentLink1Description: Datasheet; ComponentLink1URL: https://wmsc.lcsc.com/wmsc/upload/file/pdf/v2/lcsc/2106080004_Murata-Electronics-BLM21SP331SZ1D_C2661776.pdf; ComponentLink2Description: JLCPCB Part URL; ComponentLink2URL: https://jlcpcb.com/partdetail/C2661776; ComponentLink3Description: LCSC Part URL; ComponentLink3URL: https://lcsc.com/product-detail/Ferrite-Beads_Murata-Electronics-Murata-Electronics-BLM21SP331SZ1D_C2661776.html
footprint FB-0805 (0805 (2012M) Ferrite)
pins: 1, 2

## BLM21SP471BH1D
designator FB?  Impedance @ Frequency: 470Ω@100MHz
Ferrite, 470Ω@100MHz, ±25%, 50mΩ, 2.5A, SMD 0805; Manufacturer: Murata Electronics; Manufacturer Part Number: BLM21SP471BH1D; Package Size: 0805; JLCPCB Basic Part: No; JLCPCB Part Number: C2661779; Supplier 1: LCSC; Category: Ferrite Beads; Supplier Part Number 1: C2661779; Tolerance: ±25%; Rated Current: 2.5A; DC Resistance: 50mΩ; RoHS: Yes; ComponentLink1Description: Datasheet; ComponentLink1URL: https://wmsc.lcsc.com/wmsc/upload/file/pdf/v2/lcsc/2108070930_Murata-Electronics-BLM21SP471BH1D_C2661779.pdf; ComponentLink2Description: JLCPCB Part URL; ComponentLink2URL: https://jlcpcb.com/partdetail/C2661779; ComponentLink3Description: LCSC Part URL; ComponentLink3URL: https://lcsc.com/product-detail/Ferrite-Beads_Murata-Electronics-Murata-Electronics-BLM21SP471BH1D_C2661779.html
footprint FB-0805 (0805 (2012M) Ferrite)
pins: 1, 2

## BLM21SP601SH1D
designator FB?  Impedance @ Frequency: 600Ω@100MHz
Ferrite, 600Ω@100MHz, 60mΩ, SMD 0805; Manufacturer: Murata Electronics; Manufacturer Part Number: BLM21SP601SH1D; Package Size: 0805; JLCPCB Basic Part: No; JLCPCB Part Number: C2661836; Supplier 1: LCSC; Category: Ferrite Beads; Supplier Part Number 1: C2661836; DC Resistance: 60mΩ; RoHS: Yes; ComponentLink1Description: Datasheet; ComponentLink1URL: https://wmsc.lcsc.com/wmsc/upload/file/pdf/v2/lcsc/2308111548_Murata-Electronics-BLM21SP601SH1D_C2661836.pdf; ComponentLink2Description: JLCPCB Part URL; ComponentLink2URL: https://jlcpcb.com/partdetail/C2661836; ComponentLink3Description: LCSC Part URL; ComponentLink3URL: https://lcsc.com/product-detail/Ferrite-Beads_Murata-Electronics-Murata-Electronics-BLM21SP601SH1D_C2661836.html
pins: 1, 2

## BLM21SP601SN1D
designator FB?  Impedance @ Frequency: 600Ω@100MHz
Ferrite, 600Ω@100MHz, 60mΩ, SMD 0805; Manufacturer: Murata Electronics; Manufacturer Part Number: BLM21SP601SN1D; Package Size: 0805; JLCPCB Basic Part: No; JLCPCB Part Number: C3716677; Supplier 1: LCSC; Category: Ferrite Beads; Supplier Part Number 1: C3716677; DC Resistance: 60mΩ; RoHS: Yes; ComponentLink1Description: Datasheet; ComponentLink1URL: https://wmsc.lcsc.com/wmsc/upload/file/pdf/v2/lcsc/2308111738_Murata-Electronics-BLM21SP601SN1D_C3716677.pdf; ComponentLink2Description: JLCPCB Part URL; ComponentLink2URL: https://jlcpcb.com/partdetail/C3716677; ComponentLink3Description: LCSC Part URL; ComponentLink3URL: https://lcsc.com/product-detail/Ferrite-Beads_Murata-Electronics-Murata-Electronics-BLM21SP601SN1D_C3716677.html
pins: 1, 2

## BMB2A0220AN4
designator FB?  Impedance @ Frequency: 220Ω@100MHz
Ferrite, 220Ω@100MHz, ±25%, 0.5Ω, 0.25A, SMD 0805; Manufacturer: TE Connectivity; Manufacturer Part Number: BMB2A0220AN4; Package Size: 0805; JLCPCB Basic Part: No; JLCPCB Part Number: C2661490; Supplier 1: LCSC; Category: Ferrite Beads; Supplier Part Number 1: C2661490; Tolerance: ±25%; Rated Current: 0.25A; DC Resistance: 0.5Ω; RoHS: Yes; ComponentLink1Description: Datasheet; ComponentLink1URL: https://wmsc.lcsc.com/wmsc/upload/file/pdf/v2/lcsc/2304140030_TE-Connectivity-BMB2A0220AN4_C2661490.pdf; ComponentLink2Description: JLCPCB Part URL; ComponentLink2URL: https://jlcpcb.com/partdetail/C2661490; ComponentLink3Description: LCSC Part URL; ComponentLink3URL: https://lcsc.com/product-detail/Ferrite-Beads_TE-Connectivity-TE-Connectivity-BMB2A0220AN4_C2661490.html
footprint FB-0805 (0805 (2012M) Ferrite)
pins: 1, 2

## CB2012-121_f_
designator FB?  Impedance @ Frequency: 120Ω@100MHz
Ferrite, 120Ω@100MHz, ±25%, 150mΩ, 700mA, SMD 0805; Manufacturer: CEC(Shenzhen Zhenhua Fu Elec); Manufacturer Part Number: CB2012-121(f); Package Size: 0805; JLCPCB Basic Part: No; JLCPCB Part Number: C316258; Supplier 1: LCSC; Category: Ferrite Beads; Supplier Part Number 1: C316258; Tolerance: ±25%; Rated Current: 700mA; DC Resistance: 150mΩ; RoHS: Yes; ComponentLink1Description: Datasheet; ComponentLink1URL: https://wmsc.lcsc.com/wmsc/upload/file/pdf/v2/lcsc/2304140030_CEC-Shenzhen-Zhenhua-Fu-Elec-CB2012-121-f_C316258.pdf; ComponentLink2Description: JLCPCB Part URL; ComponentLink2URL: https://jlcpcb.com/partdetail/C316258; ComponentLink3Description: LCSC Part URL; ComponentLink3URL: https://lcsc.com/product-detail/Ferrite-Beads_CECShenzhen-Zhenhua-Fu-Elec-CECShenzhen-Zhenhua-Fu-Elec-CB2012-121f_C316258.html
footprint FB-0805 (0805 (2012M) Ferrite)
pins: 1, 2

## CBG201209U000T
designator FB?  Impedance @ Frequency: 0Ω@100MHz
Ferrite, 0Ω@100MHz, 80mΩ, 900mA, SMD 0805; Manufacturer: FH(Guangdong Fenghua Advanced Tech); Manufacturer Part Number: CBG201209U000T; Package Size: 0805; JLCPCB Basic Part: No; JLCPCB Part Number: C91037; Supplier 1: LCSC; Category: Ferrite Beads; Supplier Part Number 1: C91037; Rated Current: 900mA; DC Resistance: 80mΩ; RoHS: Yes; ComponentLink1Description: Datasheet; ComponentLink1URL: https://wmsc.lcsc.com/wmsc/upload/file/pdf/v2/lcsc/2304140030_FH--Guangdong-Fenghua-Advanced-Tech-CBG201209U000T_C91037.pdf; ComponentLink2Description: JLCPCB Part URL; ComponentLink2URL: https://jlcpcb.com/partdetail/C91037; ComponentLink3Description: LCSC Part URL; ComponentLink3URL: https://lcsc.com/product-detail/Ferrite-Beads_FH-Guangdong-Fenghua-Advanced-Tech-FH-Guangdong-Fenghua-Advanced-Tech-CBG201209U000T-_C91037.html
pins: 1, 2

## CBG201209U010T
designator FB?  Impedance @ Frequency: 1Ω@100MHz
Ferrite, 1Ω@100MHz, ±25%, SMD 0805; Manufacturer: FH(Guangdong Fenghua Advanced Tech); Manufacturer Part Number: CBG201209U010T; Package Size: 0805; JLCPCB Basic Part: No; JLCPCB Part Number: C668232; Supplier 1: LCSC; Category: Ferrite Beads; Supplier Part Number 1: C668232; Tolerance: ±25%; RoHS: Yes; ComponentLink1Description: Datasheet; ComponentLink1URL: https://wmsc.lcsc.com/wmsc/upload/file/pdf/v2/lcsc/2304140030_FH--Guangdong-Fenghua-Advanced-Tech-CBG201209U010T_C668232.pdf; ComponentLink2Description: JLCPCB Part URL; ComponentLink2URL: https://jlcpcb.com/partdetail/C668232; ComponentLink3Description: LCSC Part URL; ComponentLink3URL: https://lcsc.com/product-detail/Ferrite-Beads_FH-Guangdong-Fenghua-Advanced-Tech-FH-Guangdong-Fenghua-Advanced-Tech-CBG201209U010T_C668232.html
pins: 1, 2

## CBG201209U050T
designator FB?  Impedance @ Frequency: 5Ω@100MHz
Ferrite, 5Ω@100MHz, 80mΩ, 900mA, SMD 0805; Manufacturer: FH(Guangdong Fenghua Advanced Tech); Manufacturer Part Number: CBG201209U050T; Package Size: 0805; JLCPCB Basic Part: No; JLCPCB Part Number: C79505; Supplier 1: LCSC; Category: Ferrite Beads; Supplier Part Number 1: C79505; Rated Current: 900mA; DC Resistance: 80mΩ; RoHS: Yes; ComponentLink1Description: Datasheet; ComponentLink1URL: https://wmsc.lcsc.com/wmsc/upload/file/pdf/v2/lcsc/2304140030_FH--Guangdong-Fenghua-Advanced-Tech-CBG201209U050T_C79505.pdf; ComponentLink2Description: JLCPCB Part URL; ComponentLink2URL: https://jlcpcb.com/partdetail/C79505; ComponentLink3Description: LCSC Part URL; ComponentLink3URL: https://lcsc.com/product-detail/Ferrite-Beads_FH-Guangdong-Fenghua-Advanced-Tech-FH-Guangdong-Fenghua-Advanced-Tech-CBG201209U050T_C79505.html
pins: 1, 2

## CBG201209U100T
designator FB?  Impedance @ Frequency: 10Ω@100MHz
Ferrite, 10Ω@100MHz, ±25%, SMD 0805; Manufacturer: FH(Guangdong Fenghua Advanced Tech); Manufacturer Part Number: CBG201209U100T; Package Size: 0805; JLCPCB Basic Part: No; JLCPCB Part Number: C139140; Supplier 1: LCSC; Category: Ferrite Beads; Supplier Part Number 1: C139140; Tolerance: ±25%; RoHS: Yes; ComponentLink1Description: Datasheet; ComponentLink1URL: https://wmsc.lcsc.com/wmsc/upload/file/pdf/v2/lcsc/2304140030_FH--Guangdong-Fenghua-Advanced-Tech-CBG201209U100T_C139140.pdf; ComponentLink2Description: JLCPCB Part URL; ComponentLink2URL: https://jlcpcb.com/partdetail/C139140; ComponentLink3Description: LCSC Part URL; ComponentLink3URL: https://lcsc.com/product-detail/Ferrite-Beads_FH-Guangdong-Fenghua-Advanced-Tech-FH-Guangdong-Fenghua-Advanced-Tech-CBG201209U100T_C139140.html
pins: 1, 2

## CBG201209U101T
designator FB?  Impedance @ Frequency: 100Ω@100MHz
Ferrite, 100Ω@100MHz, ±25%, 180mΩ, 500mA, SMD 0805; Manufacturer: FH(Guangdong Fenghua Advanced Tech); Manufacturer Part Number: CBG201209U101T; Package Size: 0805; JLCPCB Basic Part: No; JLCPCB Part Number: C74480; Supplier 1: LCSC; Category: Ferrite Beads; Supplier Part Number 1: C74480; Tolerance: ±25%; Rated Current: 500mA; DC Resistance: 180mΩ; RoHS: Yes; ComponentLink1Description: Datasheet; ComponentLink1URL: https://wmsc.lcsc.com/wmsc/upload/file/pdf/v2/lcsc/2304140030_FH--Guangdong-Fenghua-Advanced-Tech-CBG201209U101T_C74480.pdf; ComponentLink2Description: JLCPCB Part URL; ComponentLink2URL: https://jlcpcb.com/partdetail/C74480; ComponentLink3Description: LCSC Part URL; ComponentLink3URL: https://lcsc.com/product-detail/Ferrite-Beads_FH-Guangdong-Fenghua-Advanced-Tech-FH-Guangdong-Fenghua-Advanced-Tech-CBG201209U101T_C74480.html
footprint FB-0805 (0805 (2012M) Ferrite)
pins: 1, 2

## CBG201209U102T
designator FB?  Impedance @ Frequency: 1kΩ@100MHz
Ferrite, 1kΩ@100MHz, ±25%, 400mΩ, 300mA, SMD 0805; Manufacturer: FH(Guangdong Fenghua Advanced Tech); Manufacturer Part Number: CBG201209U102T; Package Size: 0805; JLCPCB Basic Part: No; JLCPCB Part Number: C124099; Supplier 1: LCSC; Category: Ferrite Beads; Supplier Part Number 1: C124099; Tolerance: ±25%; Rated Current: 300mA; DC Resistance: 400mΩ; RoHS: Yes; ComponentLink1Description: Datasheet; ComponentLink1URL: https://wmsc.lcsc.com/wmsc/upload/file/pdf/v2/lcsc/2304140030_FH--Guangdong-Fenghua-Advanced-Tech-CBG201209U102T_C124099.pdf; ComponentLink2Description: JLCPCB Part URL; ComponentLink2URL: https://jlcpcb.com/partdetail/C124099; ComponentLink3Description: LCSC Part URL; ComponentLink3URL: https://lcsc.com/product-detail/Ferrite-Beads_FH-Guangdong-Fenghua-Advanced-Tech-FH-Guangdong-Fenghua-Advanced-Tech-CBG201209U102T_C124099.html
footprint FB-0805 (0805 (2012M) Ferrite)
pins: 1, 2

## CBG201209U110T
designator FB?  Impedance @ Frequency: 11Ω@100MHz
Ferrite, 11Ω@100MHz, 100mΩ, 900mA, SMD 0805; Manufacturer: FH(Guangdong Fenghua Advanced Tech); Manufacturer Part Number: CBG201209U110T; Package Size: 0805; JLCPCB Basic Part: No; JLCPCB Part Number: C139141; Supplier 1: LCSC; Category: Ferrite Beads; Supplier Part Number 1: C139141; Rated Current: 900mA; DC Resistance: 100mΩ; RoHS: Yes; ComponentLink1Description: Datasheet; ComponentLink1URL: https://wmsc.lcsc.com/wmsc/upload/file/pdf/v2/lcsc/2304140030_FH--Guangdong-Fenghua-Advanced-Tech-CBG201209U110T_C139141.pdf; ComponentLink2Description: JLCPCB Part URL; ComponentLink2URL: https://jlcpcb.com/partdetail/C139141; ComponentLink3Description: LCSC Part URL; ComponentLink3URL: https://lcsc.com/product-detail/Ferrite-Beads_FH-Guangdong-Fenghua-Advanced-Tech-FH-Guangdong-Fenghua-Advanced-Tech-CBG201209U110T_C139141.html
pins: 1, 2

## CBG201209U121T
designator FB?  Impedance @ Frequency: 120Ω@100MHz
Ferrite, 120Ω@100MHz, ±25%, 200mΩ, 500mA, SMD 0805; Manufacturer: FH(Guangdong Fenghua Advanced Tech); Manufacturer Part Number: CBG201209U121T; Package Size: 0805; JLCPCB Basic Part: No; JLCPCB Part Number: C41330; Supplier 1: LCSC; Category: Ferrite Beads; Supplier Part Number 1: C41330; Tolerance: ±25%; Rated Current: 500mA; DC Resistance: 200mΩ; RoHS: Yes; ComponentLink1Description: Datasheet; ComponentLink1URL: https://wmsc.lcsc.com/wmsc/upload/file/pdf/v2/lcsc/2304140030_FH--Guangdong-Fenghua-Advanced-Tech-CBG201209U121T_C41330.pdf; ComponentLink2Description: JLCPCB Part URL; ComponentLink2URL: https://jlcpcb.com/partdetail/C41330; ComponentLink3Description: LCSC Part URL; ComponentLink3URL: https://lcsc.com/product-detail/Ferrite-Beads_FH-Guangdong-Fenghua-Advanced-Tech-FH-Guangdong-Fenghua-Advanced-Tech-CBG201209U121T_C41330.html
footprint FB-0805 (0805 (2012M) Ferrite)
pins: 1, 2

## CBG201209U151T_
designator FB?  Impedance @ Frequency: 150Ω@100MHz
Ferrite, 150Ω@100MHz, ±25%, 200mΩ, 400mA, SMD 0805; Manufacturer: FH(Guangdong Fenghua Advanced Tech); Manufacturer Part Number: CBG201209U151T.; Package Size: 0805; JLCPCB Basic Part: No; JLCPCB Part Number: C43415; Supplier 1: LCSC; Category: Ferrite Beads; Supplier Part Number 1: C43415; Tolerance: ±25%; Rated Current: 400mA; DC Resistance: 200mΩ; RoHS: Yes; ComponentLink1Description: Datasheet; ComponentLink1URL: https://wmsc.lcsc.com/wmsc/upload/file/pdf/v2/lcsc/2304140030_FH--Guangdong-Fenghua-Advanced-Tech-CBG201209U151T-_C43415.pdf; ComponentLink2Description: JLCPCB Part URL; ComponentLink2URL: https://jlcpcb.com/partdetail/C43415; ComponentLink3Description: LCSC Part URL; ComponentLink3URL: https://lcsc.com/product-detail/Ferrite-Beads_FH-Guangdong-Fenghua-Advanced-Tech-FH-Guangdong-Fenghua-Advanced-Tech-CBG201209U151T-_C43415.html
footprint FB-0805 (0805 (2012M) Ferrite)
pins: 1, 2

## CBG201209U152T
designator FB?  Impedance @ Frequency: 1.5kΩ@100MHz
Ferrite, 1.5kΩ@100MHz, ±25%, 700mΩ, 100mA, SMD 0805; Manufacturer: FH(Guangdong Fenghua Advanced Tech); Manufacturer Part Number: CBG201209U152T; Package Size: 0805; JLCPCB Basic Part: No; JLCPCB Part Number: C268309; Supplier 1: LCSC; Category: Ferrite Beads; Supplier Part Number 1: C268309; Tolerance: ±25%; Rated Current: 100mA; DC Resistance: 700mΩ; RoHS: Yes; ComponentLink1Description: Datasheet; ComponentLink1URL: https://wmsc.lcsc.com/wmsc/upload/file/pdf/v2/lcsc/2304140030_FH--Guangdong-Fenghua-Advanced-Tech-CBG201209U152T_C268309.pdf; ComponentLink2Description: JLCPCB Part URL; ComponentLink2URL: https://jlcpcb.com/partdetail/C268309; ComponentLink3Description: LCSC Part URL; ComponentLink3URL: https://lcsc.com/product-detail/Ferrite-Beads_FH-Guangdong-Fenghua-Advanced-Tech-FH-Guangdong-Fenghua-Advanced-Tech-CBG201209U152T_C268309.html
footprint FB-0805 (0805 (2012M) Ferrite)
pins: 1, 2